# Altium schematic symbol library Z.Schlib: 1 symbol
Pins are listed as number, name and electrical type; pins without a type are passive.

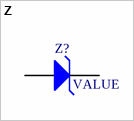
[diagram p0: symbol Z]

## Z
designator Z?, comment Diode  (value not drawn)
VALUE: VALUE
pins: 1, 2